# EAGLE library part LORA-0X (library kxn_Standard_wireless_module)
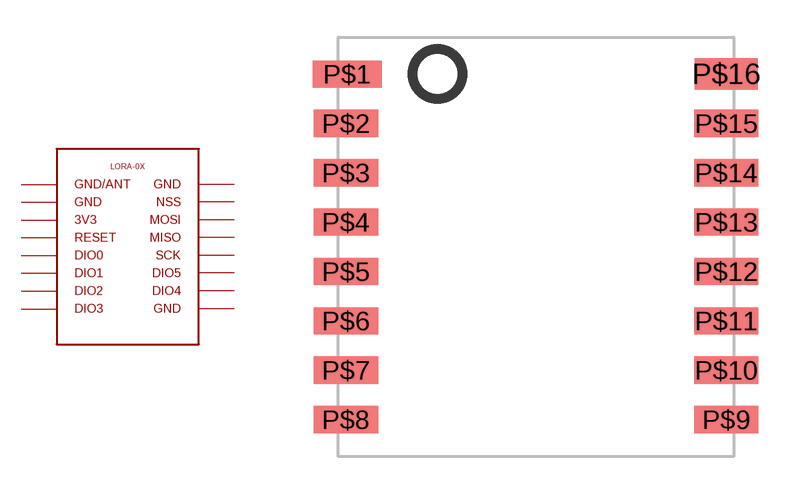
[diagram p4: symbol with the pads of RA_02; footprint RA_02]

Designator prefix -

## LORA-0X_RA02_V1.1  [RA_02]
P$1  P$1
P$2  P$2
P$3  P$3
P$4  P$4
P$5  P$5
P$6  P$6
P$7  P$7
P$8  P$8
P$9  P$9
P$10  P$10
P$11  P$11
P$12  P$12
P$13  P$13
P$14  P$14
P$15  P$15
P$16  P$16

## Footprint RA_02 (pad centres in mm)
smd 2.8 x 1.1: P$1 -7.65,7
smd 2.6 x 1.1: P$2 -7.7,5; P$3 -7.7,3; P$4 -7.7,1; P$5 -7.7,-1; P$6 -7.7,-3; P$7 -7.7,-5; P$8 -7.7,-7; P$9 7.7,-7; P$10 7.7,-5; P$11 7.7,-3; P$12 7.7,-1; P$13 7.7,1; P$14 7.7,3; P$15 7.7,5
smd 2.54 x 1.27: P$16 7.7,7